# Altium footprint library WE-FI.PcbLib: 47 footprints (part 2 of 3)
Each footprint in its own frame and in the unit in brackets; x right, y up, seen from the top. Pads: shape width x height; smd on the part's side, far side on the other; paste and mask are expansions set on the pad; w line width, h text height; cw(c..) or ccw(c..) is an arc to the next point about the centre after c.
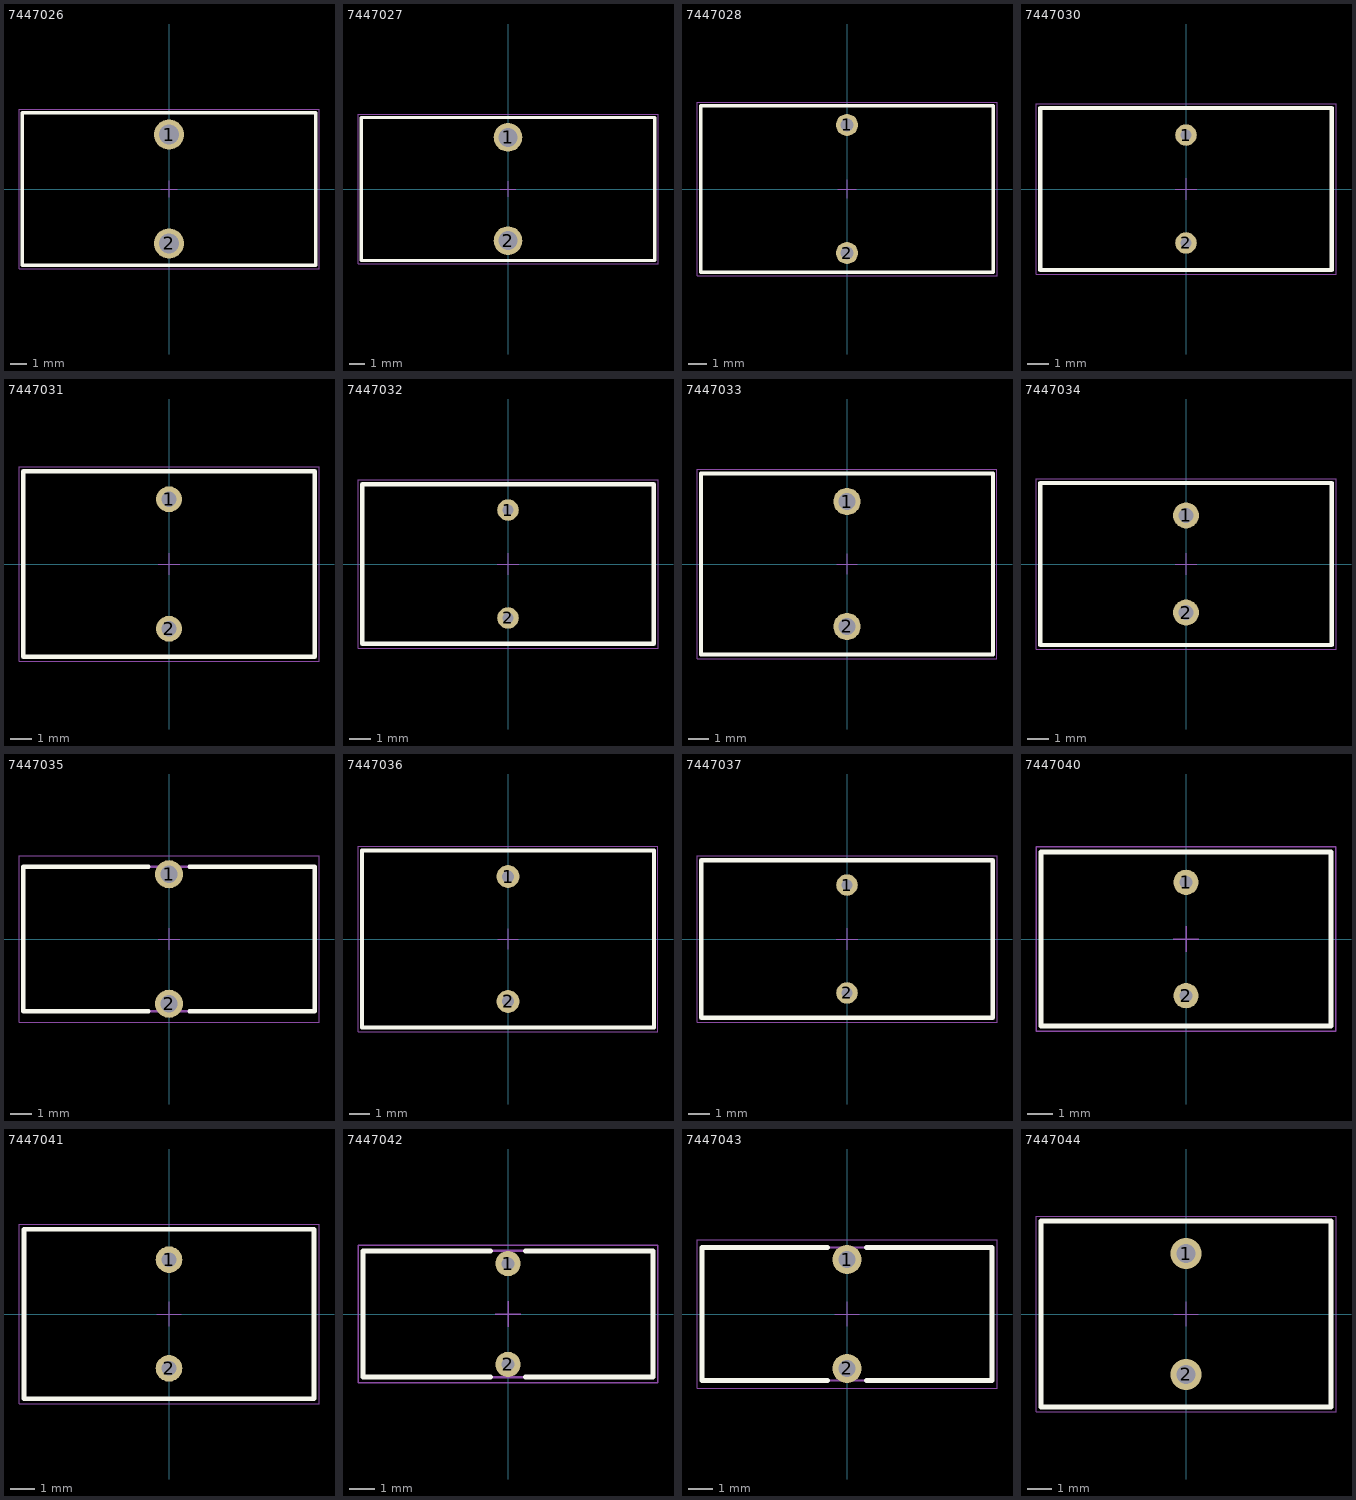
[diagram p1: the footprints below, top view; thin cyan lines are the x and y axes]

## 7447026 [mm] "Leaded Toroidal Line Choke, 2-leads, body 17.5x9.1mm"
height 17.5
pads (2):
  round 1.8 hole 1.2: 1(0,3.25) 2(0,-3.25)
Top Overlay:
  lines w0.2: -8.75,-4.55 8.75,-4.55 8.75,4.55 -8.75,4.55 -8.75,-4.55
Top Designator:
  text ".Designator" at -7.498,-0.5 h1.5
Top Component Outline:
  lines w0.1: -8.75,-4.55 -8.75,4.55 8.75,4.55 8.75,-4.55 -8.75,-4.55
Top 3D Body:
  lines w0.1: -8.75,-4.55 8.75,-4.55 8.75,4.55 -8.75,4.55 -8.75,-4.55
Top Courtyard:
  lines w0.05: -0.5,0 0.5,0 ; 0,-0.5 0,0.5 ; -8.95,-4.75 -8.95,4.75 8.95,4.75 8.95,-4.75 -8.95,-4.75
3D body "7447026.stp": height 14.06, standoff -7.43, extent -7.46,-3.749 7.46,3.749

## 7447027 [mm] "Leaded Toroidal Line Choke, 2-leads, body 18.5x9mm"
height 18.5
pads (2):
  round 1.8 hole 1.2: 1(0,3.25) 2(0,-3.25)
Top Overlay:
  lines w0.2: -9.25,-4.5 9.25,-4.5 9.25,4.5 -9.25,4.5 -9.25,-4.5
Top Designator:
  text ".Designator" at -7.498,-0.5 h1.5
Top Component Outline:
  lines w0.1: -9.25,-4.5 9.25,-4.5 9.25,4.5 -9.25,4.5 -9.25,-4.5
Top 3D Body:
  lines w0.1: -9.25,-4.5 9.25,-4.5 9.25,4.5 -9.25,4.5 -9.25,-4.5
Top Courtyard:
  lines w0.05: -0.5,0 0.5,0 ; 0,-0.5 0,0.5 ; -9.45,-4.7 9.45,-4.7 9.45,4.7 -9.45,4.7 -9.45,-4.7
3D body "7447027.stp": height 14.06, standoff -7.43, extent -7.46,-3.749 7.46,3.749

## 7447028 [mm] "Leaded Toroidal Line Choke, 2-leads, body 16x9.1mm"
height 16
pads (2):
  round 1.2 hole 0.7: 1(0,3.5) 2(0,-3.5)
Top Overlay:
  lines w0.2: -8,-4.55 8,-4.55 8,4.55 -8,4.55 -8,-4.55
Top Designator:
  text ".Designator" at -7.498,-0.5 h1.5
Top Component Outline:
  lines w0.1: -8,-4.55 -8,4.55 8,4.55 8,-4.55 -8,-4.55
Top 3D Body:
  lines w0.1: -8,-4.55 8,-4.55 8,4.55 -8,4.55 -8,-4.55
Top Courtyard:
  lines w0.05: -0.5,0 0.5,0 ; 0,-0.5 0,0.5 ; -8.2,-4.75 -8.2,4.75 8.2,4.75 8.2,-4.75 -8.2,-4.75
3D body "7447028.stp": height 13.86, standoff -19.83, extent -6.959,-3.749 6.959,3.75

## 7447030 [mm] "Leaded Toroidal Line Choke, 2-leads, body 13.5x7.4mm"
height 13.5
pads (2):
  round 1 hole 0.5: 1(0,2.5) 2(0,-2.5)
Top Overlay:
  lines w0.2: -6.75,-3.75 -6.75,3.75 6.75,3.75 6.75,-3.75 -6.75,-3.75
Top Designator:
  text ".Designator" at -7.498,-0.5 h1.5
Top Component Outline:
  lines w0.1: -6.75,-3.75 -6.75,3.75 6.75,3.75 6.75,-3.75 -6.75,-3.75
Top 3D Body:
  lines w0.1: -6.75,-3.75 6.75,-3.75 6.75,3.75 -6.75,3.75 -6.75,-3.75
Top Courtyard:
  lines w0.05: -0.5,0 0.5,0 ; 0,-0.5 0,0.5 ; -6.95,-3.95 -6.95,3.95 6.95,3.95 6.95,-3.95 -6.95,-3.95
3D body "7447030.stp": height 12.01, standoff -14.92, extent -6.01,-2.65 6.01,2.65

## 7447031 [mm] "Leaded Toroidal Line Choke, 2-leads, body 13.5x8.6mm"
height 13.5
pads (2):
  round 1.2 hole 0.7: 1(0,3) 2(0,-3)
Top Overlay:
  lines w0.2: -6.75,-4.3 -6.75,4.3 6.75,4.3 6.75,-4.3 -6.75,-4.3
Top Designator:
  text ".Designator" at -7.498,-0.5 h1.5
Top Component Outline:
  lines w0.1: -6.75,-4.3 6.75,-4.3 6.75,4.3 -6.75,4.3 -6.75,-4.3
Top 3D Body:
  lines w0.1: -6.75,-4.3 -6.75,4.3 6.75,4.3 6.75,-4.3 -6.75,-4.3
Top Courtyard:
  lines w0.05: -0.5,0 0.5,0 ; 0,-0.5 0,0.5 ; -6.95,-4.5 6.95,-4.5 6.95,4.5 -6.95,4.5 -6.95,-4.5
3D body "7447031.stp": height 12.31, standoff -14.91, extent -6.21,-3.249 6.21,3.25

## 7447032 [mm] "Leaded Toroidal Line Choke, 2-leads, body 13.5x7.4mm"
height 13.5
pads (2):
  round 1 hole 0.5: 1(0,2.5) 2(0,-2.5)
Top Overlay:
  lines w0.2: -6.75,-3.7 6.75,-3.7 6.75,3.7 -6.75,3.7 -6.75,-3.7
Top Designator:
  text ".Designator" at -7.498,-0.5 h1.5
Top Component Outline:
  lines w0.1: -6.75,-3.7 -6.75,3.7 6.75,3.7 6.75,-3.7 -6.75,-3.7
Top 3D Body:
  lines w0.1: -6.75,-3.7 6.75,-3.7 6.75,3.7 -6.75,3.7 -6.75,-3.7
Top Courtyard:
  lines w0.05: -0.5,0 0.5,0 ; 0,-0.5 0,0.5 ; -6.95,-3.9 -6.95,3.9 6.95,3.9 6.95,-3.9 -6.95,-3.9
3D body "7447032.stp": height 12.01, standoff -14.92, extent -6.01,-2.65 6.01,2.65

## 7447033 [mm] "Leaded Toroidal Line Choke, 2-leads, body 14x8.7mm"
height 14
pads (2):
  round 1.3 hole 0.8: 1(0,3) 2(0,-3)
Top Overlay:
  lines w0.2: -7,-4.35 7,-4.35 7,4.35 -7,4.35 -7,-4.35
Top Designator:
  text ".Designator" at -7.498,-0.5 h1.5
Top Component Outline:
  lines w0.1: -7,-4.35 -7,4.35 7,4.35 7,-4.35 -7,-4.35
Top 3D Body:
  lines w0.1: -7,-4.35 7,-4.35 7,4.35 -7,4.35 -7,-4.35
Top Courtyard:
  lines w0.05: -0.5,0 0.5,0 ; 0,-0.5 0,0.5 ; -7.2,-4.55 -7.2,4.55 7.2,4.55 7.2,-4.55 -7.2,-4.55
3D body "7447033.stp": height 12.41, standoff -14.92, extent -6.309,-3.299 6.308,3.3

## 7447034 [mm] "Leaded Toroidal Line Choke, 2-leads, body 13.5x7.5mm"
height 13.5
pads (2):
  round 1.2 hole 0.7: 1(0,2.25) 2(0,-2.25)
Top Overlay:
  lines w0.2: -6.75,-3.75 -6.75,3.75 6.75,3.75 6.75,-3.75 -6.75,-3.75
Top Designator:
  text ".Designator" at -7.498,-0.5 h1.5
Top Component Outline:
  lines w0.1: -6.75,-3.75 -6.75,3.75 6.75,3.75 6.75,-3.75 -6.75,-3.75
Top 3D Body:
  lines w0.1: -6.75,-3.75 6.75,-3.75 6.75,3.75 -6.75,3.75 -6.75,-3.75
Top Courtyard:
  lines w0.05: -0.5,0 0.5,0 ; 0,-0.5 0,0.5 ; -6.95,-3.95 -6.95,3.95 6.95,3.95 6.95,-3.95 -6.95,-3.95
3D body "7447034.stp": height 12.41, standoff -14.81, extent -6.21,-2.499 6.21,2.5

## 7447035 [mm] "Leaded Toroidal Line Choke, 2-leads, body 13.5x6.7mm"
height 13.5
pads (2):
  round 1.3 hole 0.8: 1(0,3) 2(0,-3)
Top Overlay:
  lines w0.2: -0.95,-3.35 -6.75,-3.35 -6.75,3.35 -0.95,3.35 ; 0.95,-3.35 6.75,-3.35 6.75,3.35 0.95,3.35
Top Designator:
  text ".Designator" at -7.498,-0.5 h1.5
Top Component Outline:
  lines w0.1: -6.75,-3.35 -6.75,3.35 6.75,3.35 6.75,-3.35 -6.75,-3.35
Top 3D Body:
  lines w0.1: -6.75,-3.35 6.75,-3.35 6.75,3.35 -6.75,3.35 -6.75,-3.35
Top Courtyard:
  lines w0.05: -0.5,0 0.5,0 ; 0,-0.5 0,0.5 ; -6.95,-3.85 -6.95,3.85 6.95,3.85 6.95,-3.85 -6.95,-3.85
3D body "7447035.stp": height 12.41, standoff -14.92, extent -6.309,-3.299 6.308,3.3

## 7447036 [mm] "Leaded Toroidal Line Choke, 2-leads, body 14x8.5mm"
height 14
pads (2):
  round 1.1 hole 0.6: 1(0,3) 2(0,-3)
Top Overlay:
  lines w0.2: -7,-4.25 -7,4.25 7,4.25 7,-4.25 -7,-4.25
Top Designator:
  text ".Designator" at -7.498,-0.5 h1.5
Top Component Outline:
  lines w0.1: -7,-4.25 -7,4.25 7,4.25 7,-4.25 -7,-4.25
Top 3D Body:
  lines w0.1: -7,-4.25 7,-4.25 7,4.25 -7,4.25 -7,-4.25
Top Courtyard:
  lines w0.05: -0.5,0 0.5,0 ; 0,-0.5 0,0.5 ; -7.2,-4.45 -7.2,4.45 7.2,4.45 7.2,-4.45 -7.2,-4.45
3D body "7447036.stp": height 12.21, standoff -14.81, extent -6.109,-3.199 6.109,3.2

## 7447037 [mm] "Leaded Toroidal Line Choke, 2-leads, body 13.5x7.3mm"
height 13.5
pads (2):
  round 1 hole 0.5: 1(0,2.5) 2(0,-2.5)
Top Overlay:
  lines w0.2: -6.75,-3.65 -6.75,3.65 6.75,3.65 6.75,-3.65 -6.75,-3.65
Top Designator:
  text ".Designator" at -7.498,-0.5 h1.5
Top Component Outline:
  lines w0.1: -6.75,-3.65 -6.75,3.65 6.75,3.65 6.75,-3.65 -6.75,-3.65
Top 3D Body:
  lines w0.1: -6.75,-3.65 6.75,-3.65 6.75,3.65 -6.75,3.65 -6.75,-3.65
Top Courtyard:
  lines w0.05: -0.5,0 0.5,0 ; 0,-0.5 0,0.5 ; -6.95,-3.85 -6.95,3.85 6.95,3.85 6.95,-3.85 -6.95,-3.85
3D body "7447037.stp": height 12.01, standoff -14.92, extent -6.01,-2.65 6.01,2.65

## 7447040 [mm] "Leaded Toroidal Line Choke, 2-leads, body 11.5x6.9mm"
height 11.5
pads (2):
  round 1 hole 0.5: 1(0,2.25) 2(0,-2.25)
Top Overlay:
  lines w0.2: -5.75,-3.45 -5.75,3.45 5.75,3.45 5.75,-3.45 -5.75,-3.45
Top Designator:
  text ".Designator" at -7.498,-0.5 h1.5
Top Component Outline:
  lines w0.1: -5.75,-3.45 5.75,-3.45 5.75,3.45 -5.75,3.45 -5.75,-3.45
Top 3D Body:
  lines w0.1: -5.75,-3.45 -5.75,3.45 5.75,3.45 5.75,-3.45 -5.75,-3.45
Top Courtyard:
  lines w0.05: -0.5,0 0.5,0 ; 0,-0.5 0,0.5 ; -5.95,-3.65 5.95,-3.65 5.95,3.65 -5.95,3.65 -5.95,-3.65
3D body "7447040.stp": height 10.37, standoff -14.9, extent -5.174,-2.4 5.174,2.4

## 7447041 [mm] "Leaded Toroidal Line Choke, 2-leads, body 12x7mm"
height 12
pads (2):
  round 1.1 hole 0.6: 1(0,2.25) 2(0,-2.25)
Top Overlay:
  lines w0.2: -6,-3.5 6,-3.5 6,3.5 -6,3.5 -6,-3.5
Top Designator:
  text ".Designator" at -7.498,-0.5 h1.5
Top Component Outline:
  lines w0.1: -6,-3.5 6,-3.5 6,3.5 -6,3.5 -6,-3.5
Top 3D Body:
  lines w0.1: -6,-3.5 -6,3.5 6,3.5 6,-3.5 -6,-3.5
Top Courtyard:
  lines w0.05: -0.5,0 0.5,0 ; 0,-0.5 0,0.5 ; -6.2,-3.7 6.2,-3.7 6.2,3.7 -6.2,3.7 -6.2,-3.7
3D body "7447041.stp": height 10.47, standoff -14.9, extent -5.275,-2.449 5.275,2.45

## 7447042 [mm] "Leaded Toroidal Line Choke, 2-leads, body 11.5x5mm"
height 11.5
pads (2):
  round 1 hole 0.5: 1(0,2) 2(0,-2)
Top Overlay:
  lines w0.2: -0.7,-2.5 -5.75,-2.5 -5.75,2.5 -0.7,2.5 ; 0.7,-2.5 5.75,-2.5 5.75,2.5 0.7,2.5
Top Designator:
  text ".Designator" at -7.498,-0.5 h1.5
Top Component Outline:
  lines w0.1: -5.75,-2.5 -5.75,2.5 5.75,2.5 5.75,-2.5 -5.75,-2.5
Top 3D Body:
  lines w0.1: -5.75,-2.5 5.75,-2.5 5.75,2.5 -5.75,2.5 -5.75,-2.5
Top Courtyard:
  lines w0.05: -0.5,0 0.5,0 ; 0,-0.5 0,0.5 ; -5.95,-2.725 -5.95,2.725 5.95,2.725 5.95,-2.725 -5.95,-2.725
3D body "7447042.stp": height 10.37, standoff -14.9, extent -5.174,-2.15 5.174,2.15

## 7447043 [mm] "Leaded Toroidal Line Choke, 2-leads, body 12x5.5mm"
height 12
pads (2):
  round 1.2 hole 0.7: 1(0,2.25) 2(0,-2.25)
Top Overlay:
  lines w0.2: -0.8,-2.75 -6,-2.75 -6,2.75 -0.8,2.75 ; 0.8,-2.75 6,-2.75 6,2.75 0.8,2.75
Top Designator:
  text ".Designator" at -7.498,-0.5 h1.5
Top Component Outline:
  lines w0.1: -6,-2.75 -6,2.75 6,2.75 6,-2.75 -6,-2.75
Top 3D Body:
  lines w0.1: -6,-2.75 6,-2.75 6,2.75 -6,2.75 -6,-2.75
Top Courtyard:
  lines w0.05: -0.5,0 0.5,0 ; 0,-0.5 0,0.5 ; -6.2,-3.075 -6.2,3.075 6.2,3.075 6.2,-3.075 -6.2,-3.075
3D body "7447043.stp": height 10.57, standoff -14.92, extent -5.375,-2.499 5.375,2.5

## 7447044 [mm] "Leaded Toroidal Line Choke, 2-leads, body 12x7.7mm"
height 12
pads (2):
  round 1.3 hole 0.8: 1(0,2.5) 2(0,-2.5)
Top Overlay:
  lines w0.2: -6,-3.85 -6,3.85 6,3.85 6,-3.85 -6,-3.85
Top Designator:
  text ".Designator" at -7.498,-0.5 h1.5
Top Component Outline:
  lines w0.1: -6,-3.85 -6,3.85 6,3.85 6,-3.85 -6,-3.85
Top 3D Body:
  lines w0.1: -6,-3.85 6,-3.85 6,3.85 -6,3.85 -6,-3.85
Top Courtyard:
  lines w0.05: -0.5,0 0.5,0 ; 0,-0.5 0,0.5 ; -6.2,-4.05 -6.2,4.05 6.2,4.05 6.2,-4.05 -6.2,-4.05
3D body "7447044.stp": height 10.77, standoff -14.92, extent -5.473,-2.799 5.474,2.8